# Altium schematic symbol library RDEC71H226MWK1H03B.SchLib: 1 symbol
Pins are listed as number, name and electrical type; pins without a type are passive.

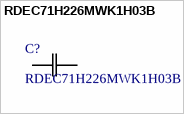
[diagram p0: symbol RDEC71H226MWK1H03B]

## RDEC71H226MWK1H03B
designator C?
Description; Manufacturer_Name: Murata; Copyright: Copyright (C) 2025 Ultra Librarian. All rights reserved.; Manufacturer_Part_Number: RDEC71H226MWK1H03B
footprint CAP_RDEC71H226MWK1H03B_MUR
pins: 1, 2